# Altium footprint library BUTTON_SWITCHES.PcbLib: 4 footprints
Each footprint in its own frame and in the unit in brackets; x right, y up, seen from the top. Pads: shape width x height; smd on the part's side, far side on the other; paste and mask are expansions set on the pad; w line width, h text height; cw(c..) or ccw(c..) is an arc to the next point about the centre after c.
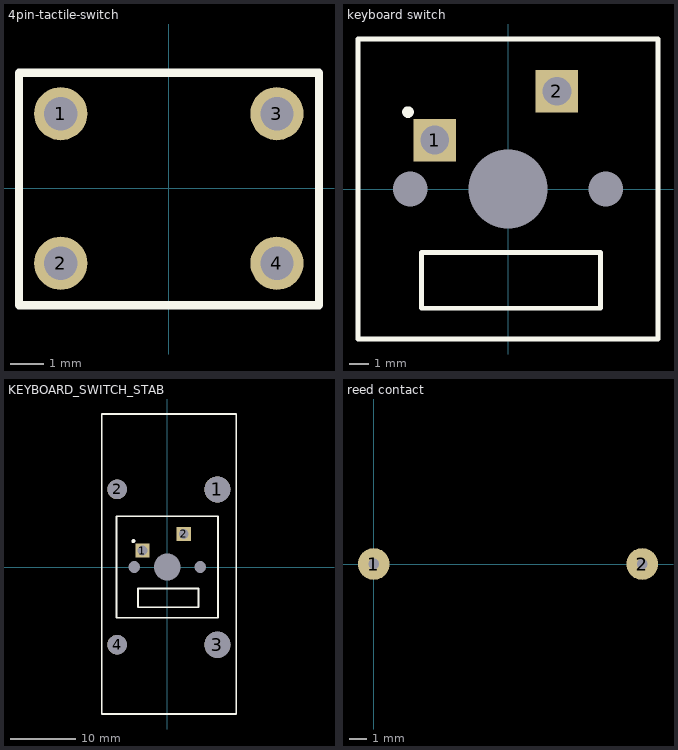
[diagram p0: the footprints below, top view; thin cyan lines are the x and y axes]

## 4pin-tactile-switch [mm]
pads (4):
  round 1.6 hole 1: 1(-3.25,2.25) 2(-3.25,-2.25) 3(3.25,2.25) 4(3.25,-2.25)
Top Overlay:
  lines w0.254: -4.507,-3.508 -4.507,3.476 4.517,3.476 4.517,-3.508 -4.507,-3.508
3D body "SWT0325-073016TSK_revA.STEP": height 7.3, standoff -3.5, extent -3.822,-3.048 4.076,2.952

## keyboard switch [mm]
pads (5):
  rect 2.2x2.2 hole 1.5: 1(-3.81,2.54) 2(2.54,5.08)
  rect 0x0 / inner rect 1.8x1.8 / far side rect 0x0 hole 1.8 unplated: ""(-5.08,0) ""(5.08,0)
  rect 0x0 / inner rect 4.1x4.1 / far side rect 0x0 hole 4.1 unplated: ""(0,0)
Top Overlay:
  circle w0.4: c-5.2,4 r0.1
  lines w0.254: -7.8,-7.8 -7.8,7.8 7.8,7.8 7.8,-7.8 -7.8,-7.8 ; -4.5,-6.2 4.8,-6.2 4.8,-3.3 2.6,-3.3 -4.5,-3.3 -4.5,-3.6 -4.5,-6 -4.5,-6.2
3D body "MX1A-E1NW--3DModel-STEP-56544.STEP": height 15.24, standoff -3.3, extent -7.747,-8.097 7.747,8.097

## KEYBOARD_SWITCH_STAB [mm] "keyboard switch met 2U stabilizer"
pads (9):
  rect 2.2x2.2 hole 1.5: 1(-3.81,2.54) 2(2.54,5.08)
  round 4 hole 4 unplated mask+0.1: 1(7.7,11.938) 3(7.7,-11.938)
  round 3 hole 3 unplated mask+0.1: 2(-7.7,11.938) 4(-7.7,-11.938)
  rect 0x0 / inner rect 1.8x1.8 / far side rect 0x0 hole 1.8 unplated: ""(-5.08,0) ""(5.08,0)
  rect 0x0 / inner rect 4.1x4.1 / far side rect 0x0 hole 4.1 unplated: ""(0,0)
Top Overlay:
  circle w0.4: c-5.2,4 r0.1
  lines w0.254: -10.078,-22.58 10.624,-22.58 10.624,23.517 -10.078,23.517 -10.078,-22.58 ; -7.8,-7.8 7.8,-7.8 7.8,7.8 -7.8,7.8 -7.8,-7.8 ; -4.5,-6.2 -4.5,-6 -4.5,-3.6 -4.5,-3.3 2.6,-3.3 4.8,-3.3 4.8,-6.2 -4.5,-6.2
3D body "MX1A-E1NW--3DModel-STEP-56544.STEP": height 15.24, standoff -3.3, extent -7.747,-8.097 7.747,8.097

## reed contact [mm]
pads (2):
  round 1.8 hole 0.6: 1(0,0) 2(15.24,0)